# EAGLE library part P-01675_SD1602VBWB (library Akizuki)
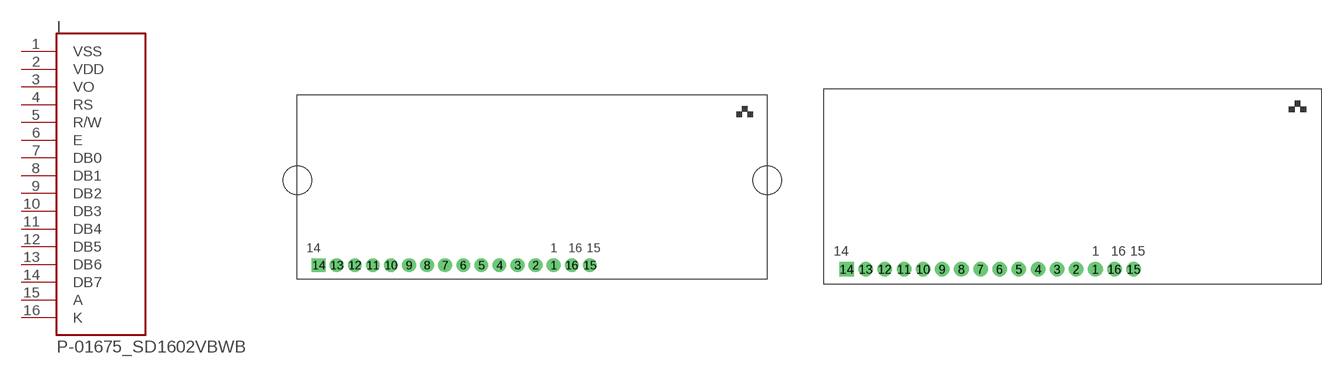
[diagram p9: symbol with the pads of SD1602VBWB; footprints SD1602VBWB, SD1602VDWB~]

Designator prefix I

## P-01675_SD1602VBWBSD1602VDWB  [SD1602VBWB]
1  VSS
2  VDD
3  VO
4  RS
5  R/W
6  E
7  DB0
8  DB1
9  DB2
10  DB3
11  DB4
12  DB5
13  DB6
14  DB7
15  A
16  K

## P-01675_SD1602VBWBSD1602VDWB~  [SD1602VDWB~]
Pads as for SD1602VBWB

## Footprint SD1602VBWB (pad centres in mm)
drill 1.1 pad 1.93: 1 36.02,2; 2 33.48,2; 3 30.94,2; 4 28.4,2; 5 25.86,2; 6 23.32,2; 7 20.78,2; 8 18.24,2; 9 15.7,2; 10 13.16,2; 11 10.62,2; 12 8.08,2; 13 5.54,2; 15 41.1,2; 16 38.56,2
drill 1.1 pad 1.93 square: 14 3,2
hole 4 at 0,13.97
hole 4 at 66.04,13.97

## Footprint SD1602VDWB~ (pad centres in mm)
drill 1.1 pad 1.93: 1 36.02,2; 2 33.48,2; 3 30.94,2; 4 28.4,2; 5 25.86,2; 6 23.32,2; 7 20.78,2; 8 18.24,2; 9 15.7,2; 10 13.16,2; 11 10.62,2; 12 8.08,2; 13 5.54,2; 15 41.1,2; 16 38.56,2
drill 1.1 pad 1.93 square: 14 3,2